# EAGLE library part ERICSSON_T2X (library casovac)
Ericcson T2X LCD connected via I2C graphic 101x33 pixel
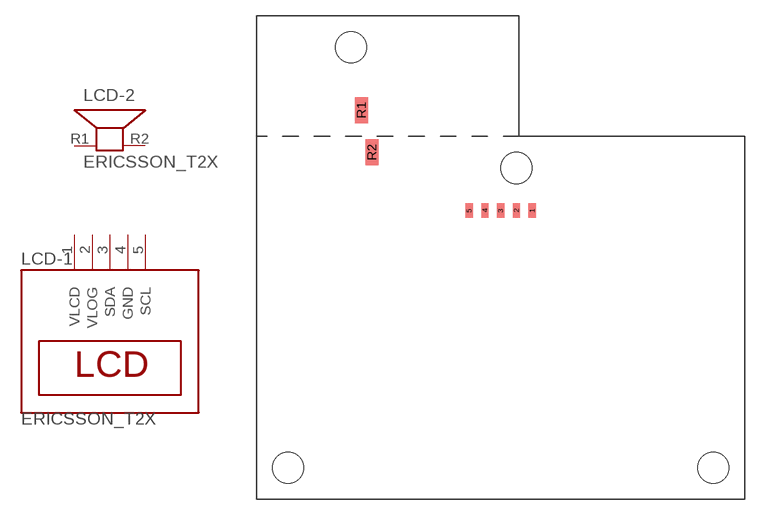
[diagram p7: symbol with the pads of LCD; footprint LCD]

Designator prefix LCD; gates -1=LCD -2=REPRO

## ERICSSON_T2X  [LCD]
1  -1:VLCD
2  -1:VLOG
3  -1:SDA
4  -1:GND
5  -1:SCL
R1  -2:1  pas
R2  -2:2  pas

## Footprint LCD (pad centres in mm)
smd 0.711 x 1.422: 1 23.622,24.838; 2 22.098,24.838; 3 20.574,24.838; 4 19.05,24.838; 5 17.526,24.838
smd 1.27 x 2.54: R1 7.112,34.544; R2 8.128,30.48
hole 3 at 0,0
hole 3 at 41.148,0
hole 3 at 22.098,28.956
hole 3 at 6.096,40.64